# Altium footprint library CONN_10X_3220-10-0300-00.PcbLib: 1 footprints
Each footprint in its own frame and in the unit in brackets; x right, y up, seen from the top. Pads: shape width x height; smd on the part's side, far side on the other; paste and mask are expansions set on the pad; w line width, h text height; cw(c..) or ccw(c..) is an arc to the next point about the centre after c.
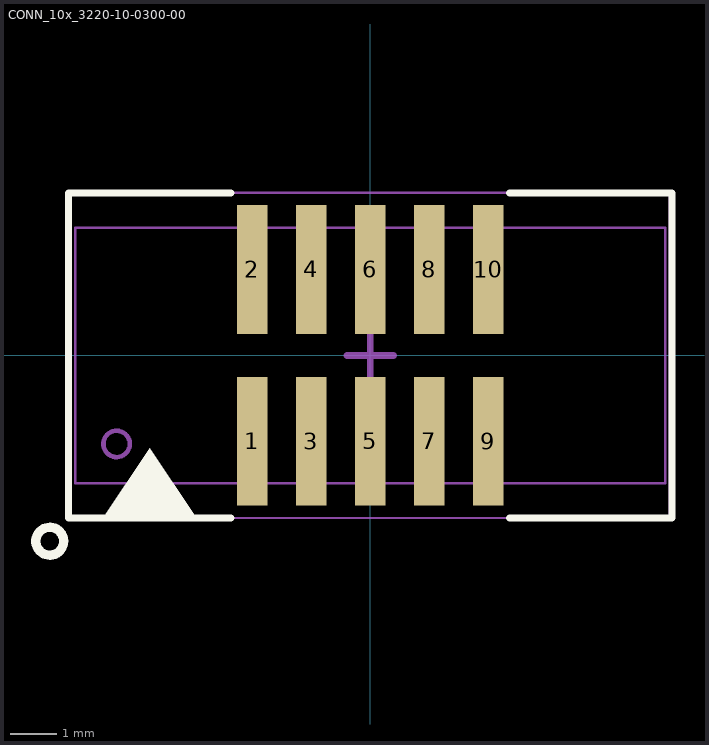
[diagram p0: the footprint, top view; thin cyan lines are the x and y axes]

## CONN_10x_3220-10-0300-00 [mm] "Maximum Density Courtyard, Datasheet:https://www.cnctech.us/pdfs/3220-XX-0300-00_.pdf"
height 4.9
pads (10):
  rect 0.65x2.77 smd: 1(-2.54,-1.85) 2(-2.54,1.85) 3(-1.27,-1.85) 4(-1.27,1.85) 5(0,-1.85) 6(0,1.85) 7(1.27,-1.85) 8(1.27,1.85) 9(2.54,-1.85) 10(2.54,1.85)
Top Overlay:
  circle w0.2: c-6.9,-4 r0.3
  region: -5.75,-3.5 -4.75,-2 -3.75,-3.5
  lines w0.15: -3,-3.5 -6.5,-3.5 -6.5,3.5 -3,3.5 ; 3,-3.5 6.5,-3.5 6.5,3.5 3,3.5
Top Assembly:
  circle w0.1: c-5.461,-1.905 r0.284
  lines w0.05: -6.35,-2.75 6.35,-2.75 6.35,2.75 -6.35,2.75 -6.35,-2.75
  text ".designator" at -4.998,-0.333 h1
Top Courtyard:
  lines w0.05: -6.45,-3.5 6.45,-3.5 6.45,3.5 -6.45,3.5 -6.45,-3.5
  lines w0.15: -0.5,0 0.5,0 ; 0,-0.5 0,0.5
3D body "3220-10-0300-00 3D.stp": height 5.15, standoff -0.05, extent -6.35,-2.75 6.35,2.75